# Altium footprint library Oscillator.PcbLib: 1 footprints
Each footprint in its own frame and in the unit in brackets; x right, y up, seen from the top. Pads: shape width x height; smd on the part's side, far side on the other; paste and mask are expansions set on the pad; w line width, h text height; cw(c..) or ccw(c..) is an arc to the next point about the centre after c.
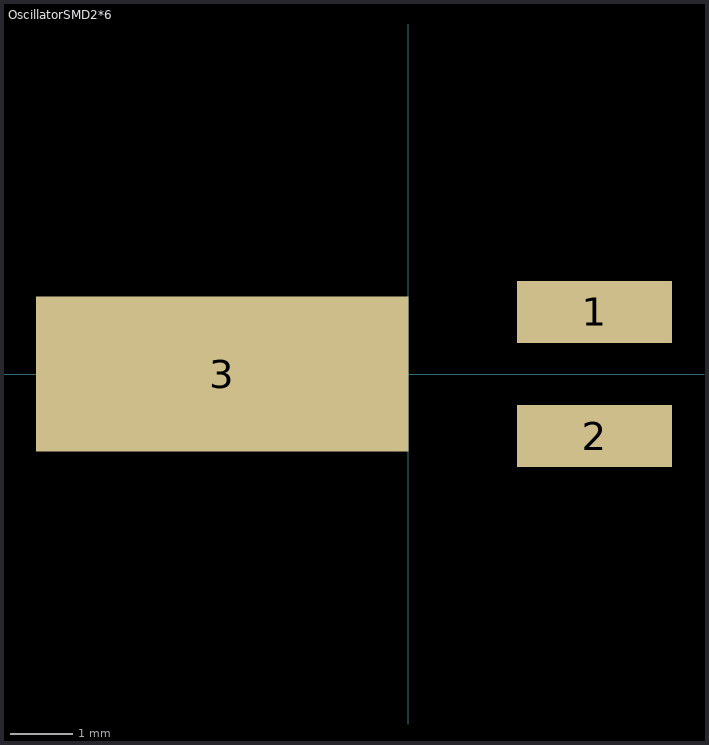
[diagram p0: the footprint, top view; thin cyan lines are the x and y axes]

## OscillatorSMD2*6 [mm]
pads (3):
  rect 2.5x1 smd: 1(3,1) 2(3,-1)
  rect 6x2.5 smd: 3(-3,0)
3D body "OscillatorSMD2_6.stp": height 2, standoff 0, extent -5.3,-1.39 3.8,1.39